# Altium footprint library SOIC8P127_490X600X170L63X40N.PcbLib: 1 footprints
Each footprint in its own frame and in the unit in brackets; x right, y up, seen from the top. Pads: shape width x height; smd on the part's side, far side on the other; paste and mask are expansions set on the pad; w line width, h text height; cw(c..) or ccw(c..) is an arc to the next point about the centre after c.
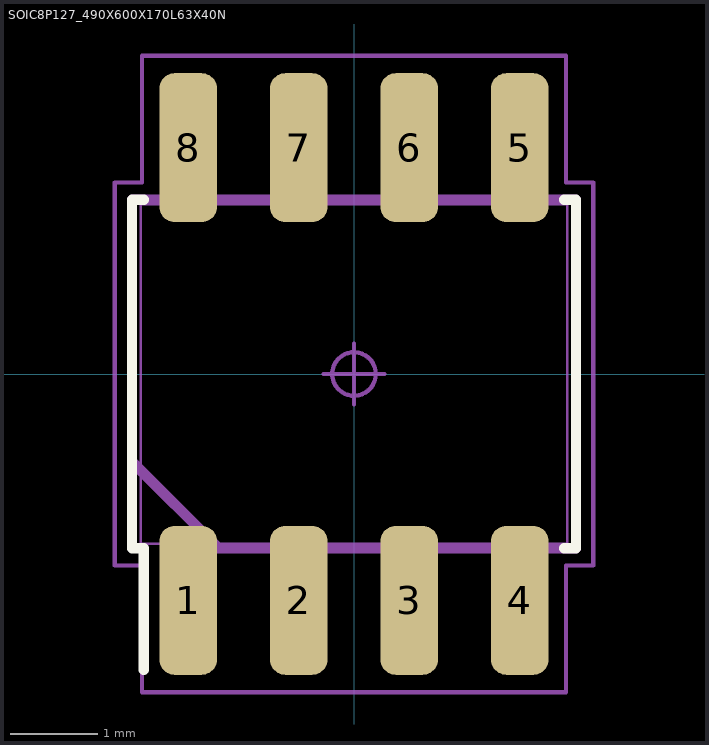
[diagram p0: the footprint, top view; thin cyan lines are the x and y axes]

## SOIC8P127_490X600X170L63X40N [mm] "Small Outline IC (SOIC), 1.27 mm pitch; 8 pin, 4.90 mm L X 3.90 mm W X 1.70 mm H body"
height 1.7
pads (8):
  rrect52% 0.66x1.71 smd: 1(-1.905,-2.6) 2(-0.635,-2.6) 3(0.635,-2.6) 4(1.905,-2.6) 5(1.905,2.6) 6(0.635,2.6) 7(-0.635,2.6) 8(-1.905,2.6)
Top Overlay:
  lines w0.12: -2.415,-3.395 -2.415,-2 -2.55,-2 -2.55,2 -2.415,2 ; 2.415,-2 2.55,-2 2.55,2 2.415,2
Mechanical 3:
  lines w0.12: -2.55,-1.006 -1.556,-2 2.55,-2 2.55,2 -2.55,2 -2.55,-1.006
Mechanical 5:
  lines w0.025: -2.45,-1.95 -2.45,1.95 2.45,1.95 2.45,-1.95 -2.45,-1.95 ; -2.107,-3 -1.703,-3 -1.703,-2.365 -2.107,-2.365 -2.107,-3 ; -2.107,2.365 -1.703,2.365 -1.703,3 -2.107,3 -2.107,2.365 ; -0.837,-3 -0.433,-3 -0.433,-2.365 -0.837,-2.365 -0.837,-3 ; -0.837,2.365 -0.433,2.365 -0.433,3 -0.837,3 -0.837,2.365 ; 0.433,-3 0.837,-3 0.837,-2.365 0.433,-2.365 0.433,-3 ; 0.433,2.365 0.837,2.365 0.837,3 0.433,3 0.433,2.365 ; 1.703,-3 2.107,-3 2.107,-2.365 1.703,-2.365 1.703,-3 ; 1.703,2.365 2.107,2.365 2.107,3 1.703,3 1.703,2.365
Mechanical 7:
  circle w0.05: c0,0 r0.25
  lines w0.05: -0.35,0 0.35,0 ; 0,-0.35 0,0.35 ; -2.75,-2.2 -2.75,2.2 -2.435,2.2 -2.435,3.655 2.435,3.655 2.435,2.2 2.75,2.2 2.75,-2.2 2.435,-2.2 2.435,-3.655 -2.435,-3.655 -2.435,-2.2 -2.75,-2.2
Mechanical 9:
  text "'.Designator'" at -5.715,-0.381 h1
3D body "SOIC8P127_490X600X170L63X40.STEP": height 1.7, standoff 0, extent -2.45,-3 2.45,3
3D body: height 1, standoff 0, extent -2.75,-3.655 2.75,3.655